# EAGLE library part 691414720015 (library Wurth_Terminal_Blocks_Connectors_rev15d)
WR-TBL Serie 4147 - 5.0mm Screwless 45° Entry - 3 mm2 Wires, 15 Pins
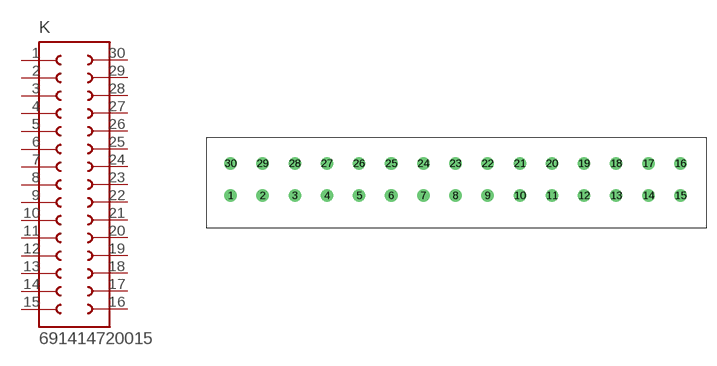
[diagram p323: symbol with the pads of 691414720015; footprint 691414720015]

Designator prefix K

## 691414720015  [691414720015]
1  1  pas
2  2  pas
3  3  pas
4  4  pas
5  5  pas
6  6  pas
7  7  pas
8  8  pas
9  9  pas
10  10  pas
11  11  pas
12  12  pas
13  13  pas
14  14  pas
15  15  pas
16  16  pas
17  17  pas
18  18  pas
19  19  pas
20  20  pas
21  21  pas
22  22  pas
23  23  pas
24  24  pas
25  25  pas
26  26  pas
27  27  pas
28  28  pas
29  29  pas
30  30  pas

## Footprint 691414720015 (pad centres in mm)
WR-TBL Serie 4147 - 5.0mm Screwless 45° Entry - 3 mm2 Wires, 15 Pins
drill 1.3: 1 -17.7,-2.54; 2 -12.7,-2.54; 3 -7.7,-2.54; 4 -2.7,-2.54; 5 2.3,-2.54; 6 7.3,-2.54; 7 12.3,-2.54; 8 17.3,-2.54; 9 22.3,-2.54; 10 27.3,-2.54; 11 32.3,-2.54; 12 37.3,-2.54; 13 42.3,-2.54; 14 47.3,-2.54; 15 52.3,-2.54; 16 52.3,2.46; 17 47.3,2.46; 18 42.3,2.46; 19 37.3,2.46; 20 32.3,2.46; 21 27.3,2.46; 22 22.3,2.46; 23 17.3,2.46; 24 12.3,2.46; 25 7.3,2.46; 26 2.3,2.46; 27 -2.7,2.46; 28 -7.7,2.46; 29 -12.7,2.46; 30 -17.7,2.46